# Altium footprint library SOIC8P127_490X600X175L83X38N.PcbLib: 1 footprints
Each footprint in its own frame and in the unit in brackets; x right, y up, seen from the top. Pads: shape width x height; smd on the part's side, far side on the other; paste and mask are expansions set on the pad; w line width, h text height; cw(c..) or ccw(c..) is an arc to the next point about the centre after c.
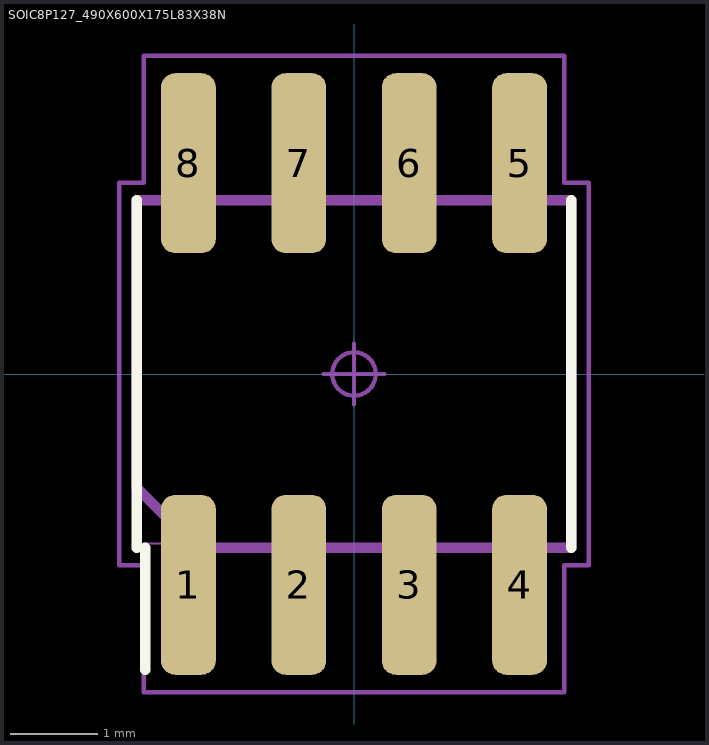
[diagram p0: the footprint, top view; thin cyan lines are the x and y axes]

## SOIC8P127_490X600X175L83X38N [mm] "Small Outline IC (SOIC), 1.27 mm pitch; 8 pin, 4.90 mm L X 3.90 mm W X 1.75 mm H body"
height 1.75
pads (8):
  rrect51% 0.63x2.07 smd: 1(-1.905,-2.425) 2(-0.635,-2.425) 3(0.635,-2.425) 4(1.905,-2.425) 5(1.905,2.425) 6(0.635,2.425) 7(-0.635,2.425) 8(-1.905,2.425)
Top Overlay:
  lines w0.12: -2.5,-2 -2.5,2 ; -2.4,-3.4 -2.4,-2 ; 2.5,-2 2.5,2
Mechanical 3:
  lines w0.12: -2.5,-1.31 -2.5,2 2.5,2 2.5,-2 -1.81,-2 -2.5,-1.31
Mechanical 5:
  lines w0.025: -2.45,-1.95 2.45,-1.95 2.45,1.95 -2.45,1.95 -2.45,-1.95 ; -2.095,-3 -2.095,-2.165 -1.715,-2.165 -1.715,-3 -2.095,-3 ; -2.095,2.165 -2.095,3 -1.715,3 -1.715,2.165 -2.095,2.165 ; -0.825,-3 -0.825,-2.165 -0.445,-2.165 -0.445,-3 -0.825,-3 ; -0.825,2.165 -0.825,3 -0.445,3 -0.445,2.165 -0.825,2.165 ; 0.445,-3 0.445,-2.165 0.825,-2.165 0.825,-3 0.445,-3 ; 0.445,2.165 0.445,3 0.825,3 0.825,2.165 0.445,2.165 ; 1.715,-3 1.715,-2.165 2.095,-2.165 2.095,-3 1.715,-3 ; 1.715,2.165 1.715,3 2.095,3 2.095,2.165 1.715,2.165
Mechanical 7:
  circle w0.05: c0,0 r0.25
  lines w0.05: -0.35,0 0.35,0 ; 0,-0.35 0,0.35 ; -2.7,-2.2 -2.42,-2.2 -2.42,-3.66 2.42,-3.66 2.42,-2.2 2.7,-2.2 2.7,2.2 2.42,2.2 2.42,3.66 -2.42,3.66 -2.42,2.2 -2.7,2.2 -2.7,-2.2
Mechanical 9:
  text "'.Designator'" at -5.69,-0.271 h1.02
3D body "SOIC8P127_490X600X175L83X38.STEP": height 1.75, standoff 0, extent -2.45,-3 2.45,3
3D body: height 0.25, standoff 0, extent -2.7,-3.66 2.7,3.66